# EAGLE library part CARD_CONNECTOR_MICRO_SD (library SD_Card_connector)
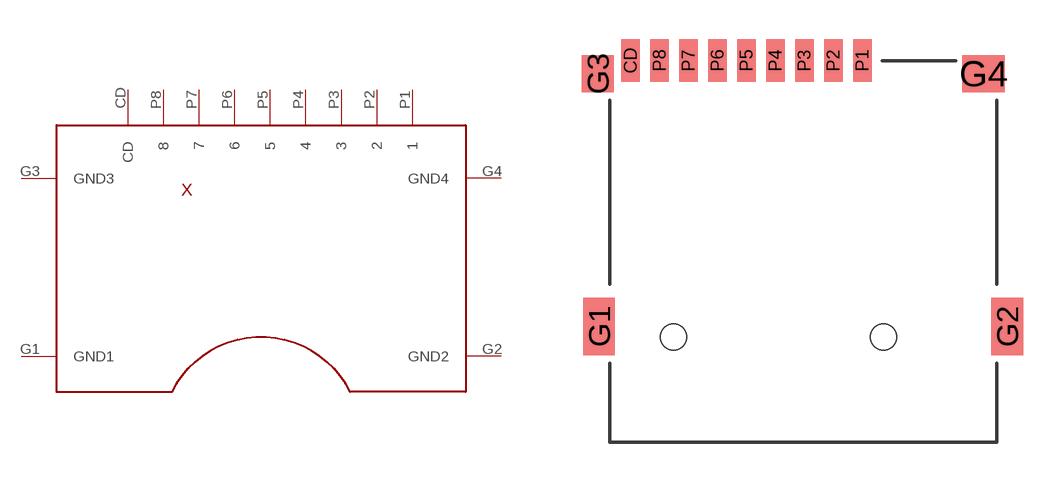
[diagram p1: symbol with the pads of 4UCON_19850_SD_CARD; footprint 4UCON_19850_SD_CARD]

Designator prefix X

## CARD_CONNECTOR_MICRO_SDX  [4UCON_19850_SD_CARD]
CD  CD
G1  GND1
G2  GND2
G3  GND3
G4  GND4
P1  1
P2  2
P3  3
P4  4
P5  5
P6  6
P7  7
P8  8

## Footprint 4UCON_19850_SD_CARD (pad centres in mm)
smd 0.7 x 1.6: CD -6.55,10.5; P1 2.25,10.5; P2 1.15,10.5; P3 0.05,10.5; P4 -1.05,10.5; P5 -2.15,10.5; P6 -3.25,10.5; P7 -4.35,10.5; P8 -5.45,10.5
smd 1.2 x 2.2: G1 -7.75,0.4; G2 7.75,0.4
smd 1.2 x 1.4: G3 -7.8,10
smd 1.6 x 1.4: G4 6.85,10
hole 1 at 3.05,0
hole 1 at -4.93,0